# EAGLE library part SSM6P15FE (library SSM6N7002KFU)
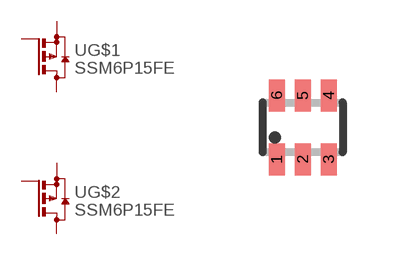
[diagram p1: symbol with the pads of SOT363; footprint SOT363]

Designator prefix -; gates G$1=P-MOS G$2=P-MOS

## SSM6P15FE  [SOT363]
1  G$2:S  pas
2  G$2:G  pas
3  G$1:D  pas
4  G$1:S  pas
5  G$1:G  pas
6  G$2:D  pas

## Footprint SOT363 (pad centres in mm)
Small Outline Transistor; 6 leads Philips Semiconductors, SOT363.pdf
smd 0.4 x 0.8: 1 -0.65,-0.8; 2 0,-0.8; 3 0.65,-0.8; 4 0.65,0.8; 5 0,0.8; 6 -0.65,0.8